# Altium footprint library 282837-6.PcbLib: 1 footprints
Each footprint in its own frame and in the unit in brackets; x right, y up, seen from the top. Pads: shape width x height; smd on the part's side, far side on the other; paste and mask are expansions set on the pad; w line width, h text height; cw(c..) or ccw(c..) is an arc to the next point about the centre after c.
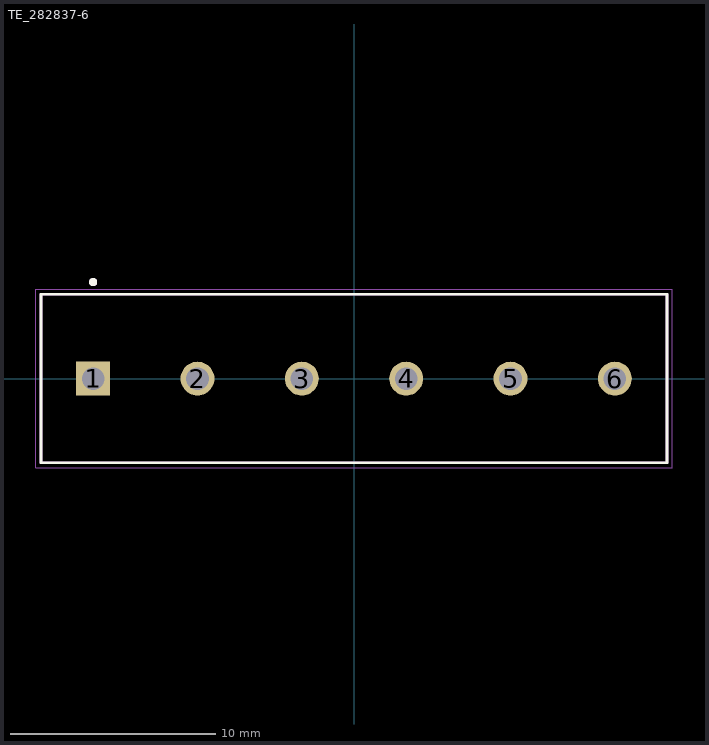
[diagram p0: the footprint, top view; thin cyan lines are the x and y axes]

## TE_282837-6 [mm]
pads (6):
  rect 1.65x1.65 hole 1.1: 1(-12.7,0)
  round 1.65 hole 1.1: 2(-7.62,0) 3(-2.54,0) 4(2.54,0) 5(7.62,0) 6(12.7,0)
Top Overlay:
  circle w0.2: c-12.7,4.7 r0.1
  lines w0.127: -15.24,-4.1 -15.24,4.1 15.24,4.1 15.24,-4.1 -15.24,-4.1
Mechanical 13:
  circle w0.2: c-12.7,4.7 r0.1
  lines w0.127: -15.24,-4.1 -15.24,4.1 15.24,4.1 15.24,-4.1 -15.24,-4.1
Mechanical 15:
  lines w0.05: -15.49,-4.35 -15.49,4.35 15.49,4.35 15.49,-4.35 -15.49,-4.35
3D body "step_temp.STEP": height 10.04, standoff -3.46, extent -15.84,-4.064 15.24,4.136